# EAGLE library part 16F103-TSSOP (library !stavebnice03)
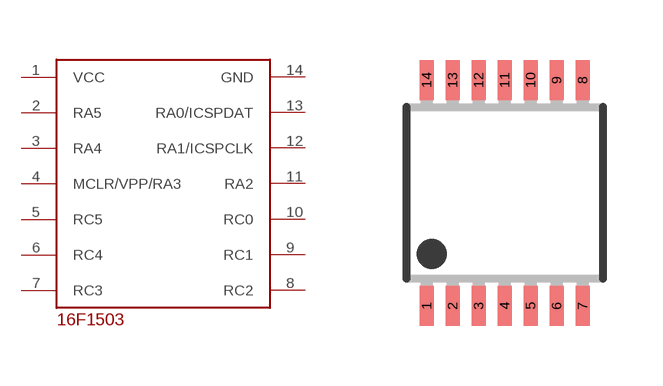
[diagram p4: symbol with the pads of TSSOP14; footprint TSSOP14]

Designator prefix -

## 16F103-TSSOP  [TSSOP14]
1  VCC  pwr
2  RA5
3  RA4
4  MCLR/VPP/RA3
5  RC5
6  RC4
7  RC3
8  RC2
9  RC1
10  RC0
11  RA2
12  RA1/ICSPCLK
13  RA0/ICSPDAT
14  GND  pwr

## Footprint TSSOP14 (pad centres in mm)
smd 0.35 x 1: 1 -1.95,-2.825; 2 -1.3,-2.825; 3 -0.65,-2.825; 4 0,-2.825; 5 0.65,-2.825; 6 1.3,-2.825; 7 1.95,-2.825; 8 1.95,2.825; 9 1.3,2.825; 10 0.65,2.825; 11 0,2.825; 12 -0.65,2.825; 13 -1.3,2.825; 14 -1.95,2.825